# EAGLE library part WE-DS_214611003 (library wurth_elektronik_passive_rev16d)
WE-DS D-SUB-Filter, Solder Pin Straight Characteristics Standard type filtered with 1000 pF High attenuation: max. ≥ 40 dB @ 180 MHz Choice of UNC 4/40 or through hole Rated voltage: 100 VDC Rated current @ 20 ºC: 5 A Withstand voltage: 250 VRMS Insulation resistance: min. 1000 MΩ Operating temperature: –55 ºC to +125 ºC Applications Filtering of interfaces External connection to -printer -sensor -display <http://katalog.we-online.de/media/thumbs2/eisos/thb_AbsDSubFilter_gerader_Loetstift_pf2.jpg> Details see: http://katalog.we-online.de/en/pbs/Filter_gerade Created on 2015-05-04 2015 (C) Wurth Elektronik
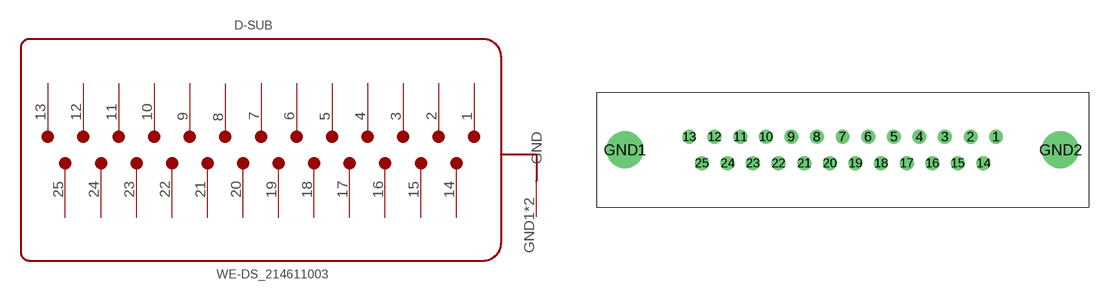
[diagram p198: symbol with the pads of WE-DS_2146110X3; footprint WE-DS_2146110X3]

Designator prefix D-SUB

## WE-DS_214611003  [WE-DS_2146110X3]
1  13
2  12
3  11
4  10
5  9
6  8
7  7
8  6
9  5
10  4
11  3
12  2
13  1
14  25
15  24
16  23
17  22
18  21
19  20
20  19
21  18
22  17
23  16
24  15
25  14
GND1  GND
GND2  GND

## Footprint WE-DS_2146110X3 (pad centres in mm)
drill 1: 1 16.56,1.42; 2 13.82,1.42; 3 11.05,1.42; 4 8.28,1.42; 5 5.54,1.42; 6 2.77,1.42; 7 0,1.42; 8 -2.77,1.42; 9 -5.54,1.42; 10 -8.28,1.42; 11 -11.05,1.42; 12 -13.82,1.42; 13 -16.56,1.42; 14 15.19,-1.42; 15 12.42,-1.42; 16 9.68,-1.42; 17 6.91,-1.42; 18 4.14,-1.42; 19 1.38,-1.42; 20 -1.38,-1.42; 21 -4.14,-1.42; 22 -6.91,-1.42; 23 -9.68,-1.42; 24 -12.42,-1.42; 25 -15.19,-1.42
drill 3: GND1 -23.5,0; GND2 23.5,0